# EAGLE library part H2M_MBED (library mbed-microcontroller)
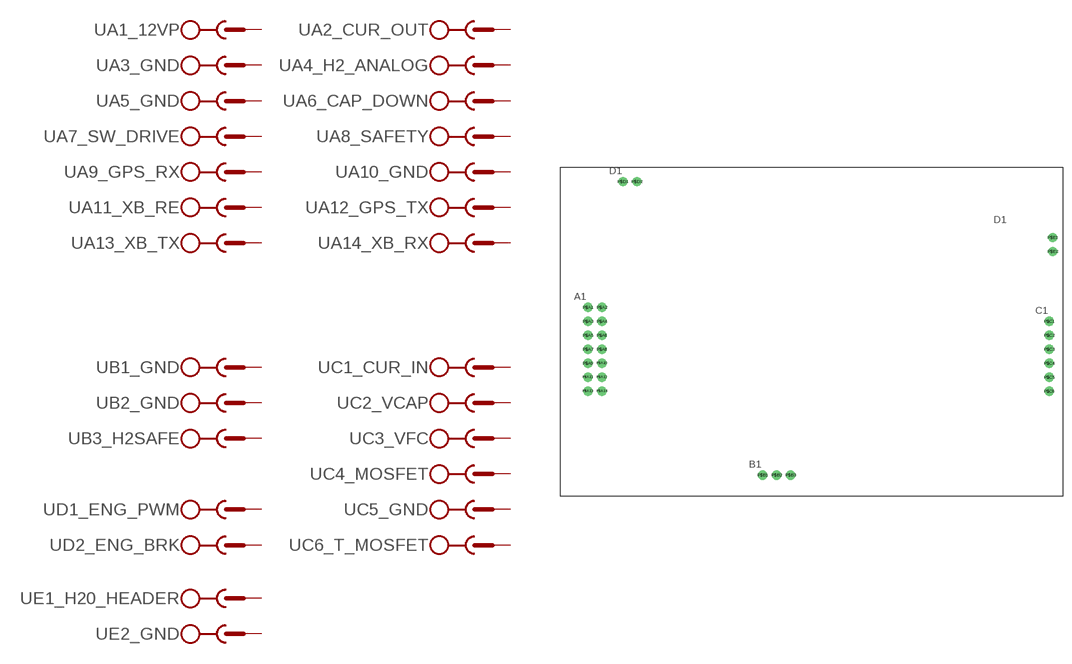
[diagram p9: symbol with the pads of H2M_MBED; footprint H2M_MBED]

Designator prefix -; gates A3_GND=PIN_1 A5_GND=PIN_1 A7_SW_DRIVE=PIN_1 A9_GPS_RX=PIN_1 A11_XB_RE=PIN_1 A13_XB_TX=PIN_1 A14_XB_RX=PIN_1 A12_GPS_TX=PIN_1 A10_GND=PIN_1 A8_SAFETY=PIN_1 A6_CAP_DOWN=PIN_1 A4_H2_ANALOG=PIN_1 A1_12VP=PIN_1 A2_CUR_OUT=PIN_1 C5_GND=PIN_1 C4_MOSFET=PIN_1 C6_T_MOSFET=PIN_1 B1_GND=PIN_1 B2_GND=PIN_1 B3_H2SAFE=PIN_1 D1_ENG_PWM=PIN_1 D2_ENG_BRK=PIN_1 C3_VFC=PIN_1 C2_VCAP=PIN_1 C1_CUR_IN=PIN_1 E1_H20_HEADER=PIN_1 E2_GND=PIN_1

## H2M_MBED  [H2M_MBED]
P$A1  A1_12VP:1  pas
P$A2  A2_CUR_OUT:1  pas
P$A3  A3_GND:1  pas
P$A4  A4_H2_ANALOG:1  pas
P$A5  A5_GND:1  pas
P$A6  A6_CAP_DOWN:1  pas
P$A7  A7_SW_DRIVE:1  pas
P$A8  A8_SAFETY:1  pas
P$A9  A9_GPS_RX:1  pas
P$A10  A10_GND:1  pas
P$A11  A11_XB_RE:1  pas
P$A12  A12_GPS_TX:1  pas
P$A13  A13_XB_TX:1  pas
P$A14  A14_XB_RX:1  pas
P$B1  B1_GND:1  pas
P$B2  B2_GND:1  pas
P$B3  B3_H2SAFE:1  pas
P$C1  C1_CUR_IN:1  pas
P$C2  C2_VCAP:1  pas
P$C3  C3_VFC:1  pas
P$C4  C4_MOSFET:1  pas
P$C5  C5_GND:1  pas
P$C6  C6_T_MOSFET:1  pas
P$D1  D1_ENG_PWM:1  pas
P$D2  D2_ENG_BRK:1  pas
P$E1  E1_H20_HEADER:1  pas
P$E2  E2_GND:1  pas

## Footprint H2M_MBED (pad centres in mm)
drill 1 pad 1.676: P$A1 5.08,34.29; P$A2 7.62,34.29; P$A3 5.08,31.75; P$A4 7.62,31.75; P$A5 5.08,29.21; P$A6 7.62,29.21; P$A7 5.08,26.67; P$A8 7.62,26.67; P$A9 5.08,24.13; P$A10 7.62,24.13; P$A11 5.08,21.59; P$A12 7.62,21.59; P$A13 5.08,19.05; P$A14 7.62,19.05; P$B1 36.83,3.81; P$B2 39.37,3.81; P$B3 41.91,3.81; P$C1 88.9,31.75; P$C2 88.9,29.21; P$C3 88.9,26.67; P$C4 88.9,24.13; P$C5 88.9,21.59; P$C6 88.9,19.05; P$D1 11.43,57.15; P$D2 13.97,57.15
drill 0.9 pad 1.676: P$E1 89.535,46.99; P$E2 89.535,44.45